# Altium schematic symbol library Freescale_Semiconductor_MCIMX6Q5EYM10ACR.SchLib: 1 symbol
Pins are listed as number, name and electrical type; pins without a type are passive.

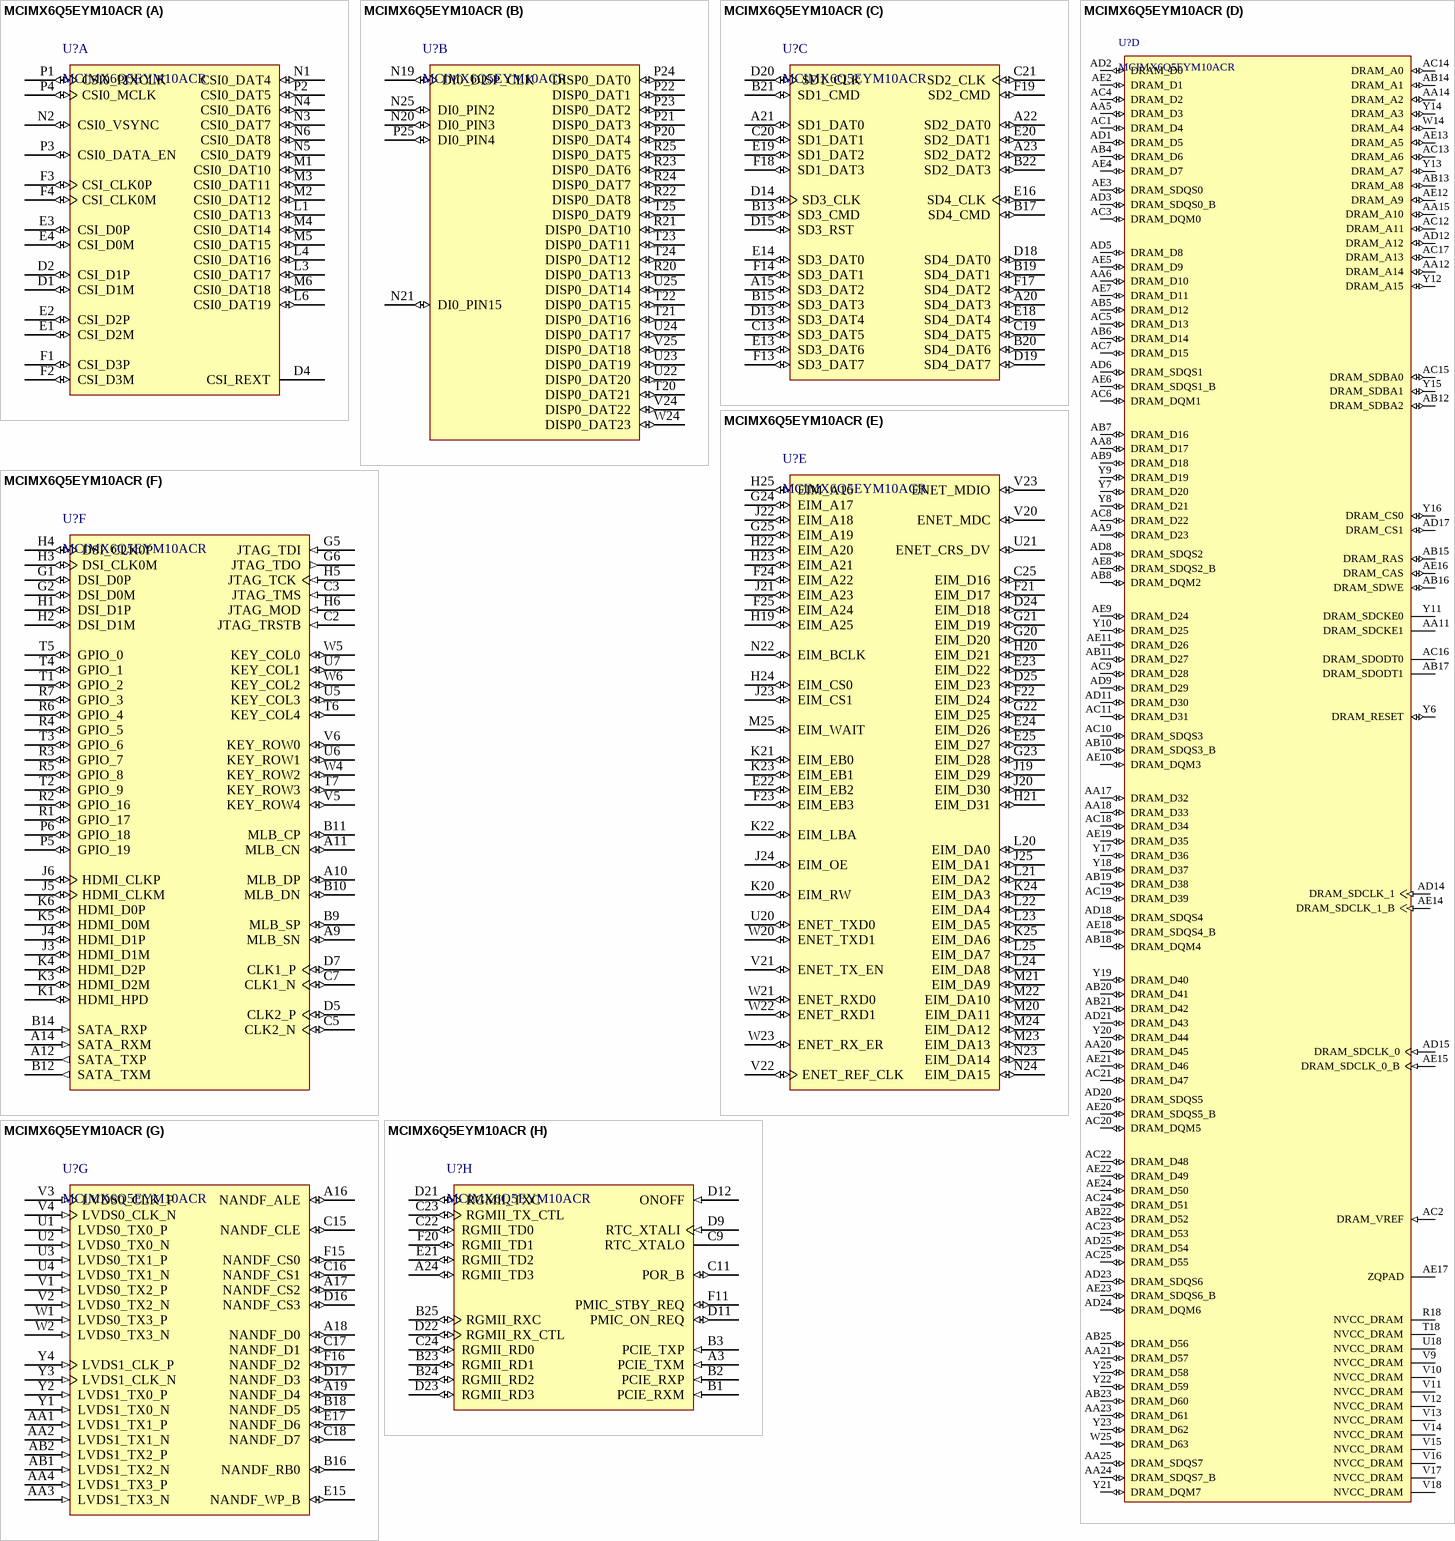
[diagram p0: symbol MCIMX6Q5EYM10ACR]

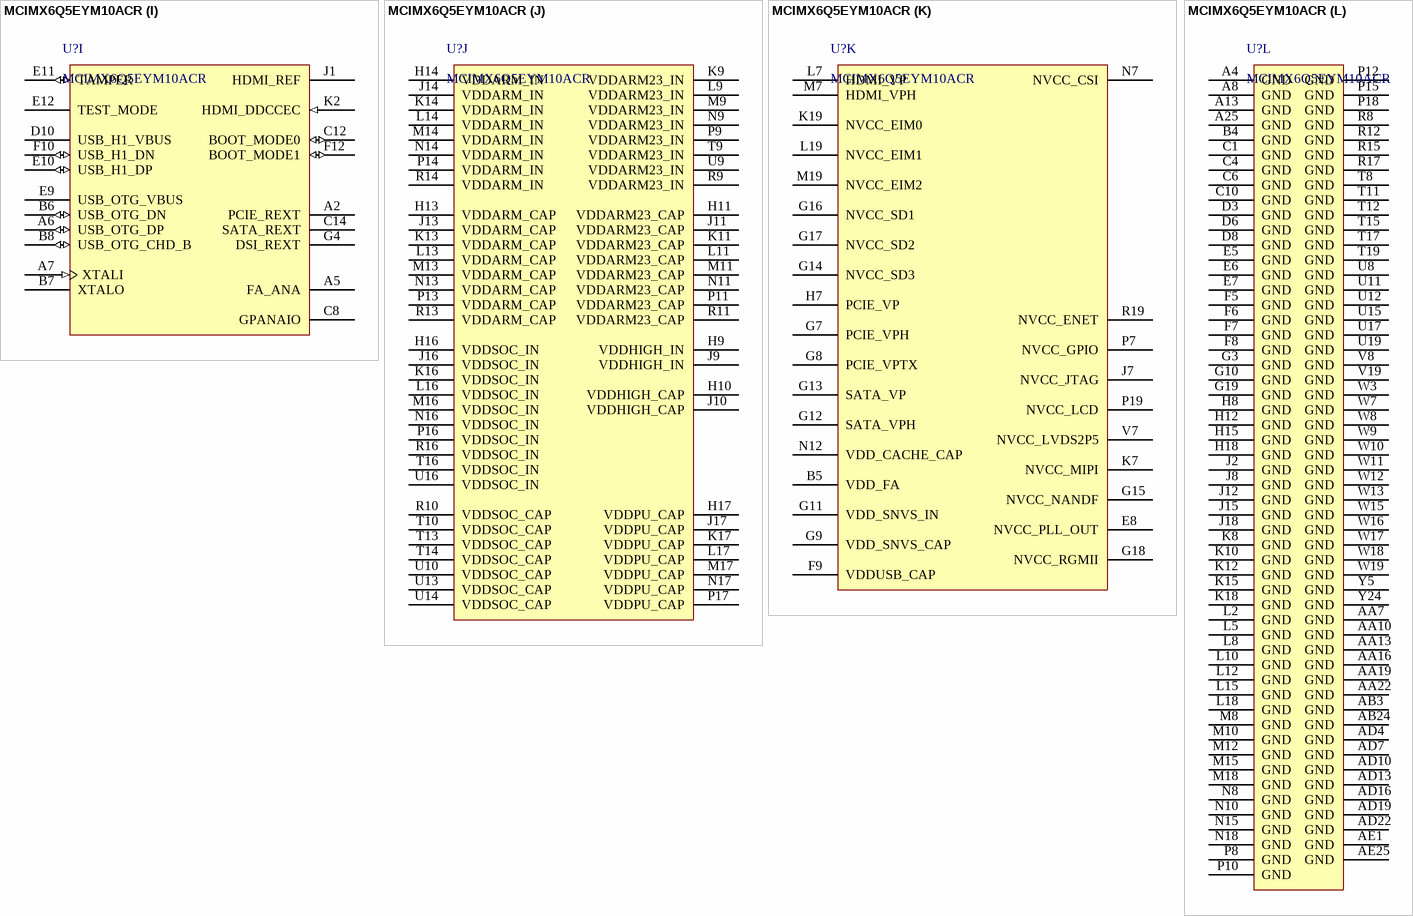
[diagram p1: symbol MCIMX6Q5EYM10ACR]

## MCIMX6Q5EYM10ACR
designator U?
32-Bit i.MX 6 Quad Application Processor, 1 GHz, 256 KB RAM, Extended Consumer Grade, 624-Pin FCPBGA, RoHS, Tape and Reel; Manufacturer: Freescale Semiconductor; CAN: FlexCAN; Number of Cores: 4 Spec; External Memory Supported: DDR3, DDR3L, FLASH, LPDDR2; Speed Grade: 1 GHz; Core Type: ARM Cortex A9; Cache (KB): 32; Ethernet: 1 Gbps + IEEE 1588; Internal RAM (KB): 256; PartNumber: MCIMX6Q5EYM10ACR; ComponentLink1Description: Manufacturer URL; ComponentLink2Description: Datasheet; DatasheetVersion: Rev. 2.3; ComponentLink3URL: http://cache.freescale.com/files/32bit/doc/data_sheet/IMX6DQCEC.pdf?fpsp=1&WT_TYPE=Data%20Sheets&WT_VENDOR=FREESCALE&WT_FILE_FORMAT=pdf&WT_ASSET=Documentation; ComponentLink1URL: http://www.freescale.com/; Packing: Tape and Reel; Temperature Range: -20 to 105 degC; ComponentLink2URL: http://cache.freescale.com/files/32bit/doc/data_sheet/IMX6DQCEC.pdf?fpsp=1&WT_TYPE=Data%20Sheets&WT_VENDOR=FREESCALE&WT_FILE_FORMAT=pdf&WT_ASSET=Documentation; ComponentLink3Description: Package Specification; PackageVersion: Rev. A; RoHS: TRUE; Quad/Dual CPU: i.MX 6Quad; Mounting Technology: Surface Mount; PackageReference: FCPBGA-624; PackageDescription: 624-pin Ball Grid Array Package, Body 21 x 21mm, Pitch 0.8mm
footprint FRES-2197-01
part A pins: D1 CSI_D1M (io), D2 CSI_D1P (io), D4 CSI_REXT, E1 CSI_D2M (io), E2 CSI_D2P (io), E3 CSI_D0P (io), E4 CSI_D0M (io), F1 CSI_D3P (io), F2 CSI_D3M (io), F3 CSI_CLK0P (io), F4 CSI_CLK0M (io), L1 CSI0_DAT13 (io), L3 CSI0_DAT17 (io), L4 CSI0_DAT16 (io), L6 CSI0_DAT19 (io), M1 CSI0_DAT10 (io), M2 CSI0_DAT12 (io), M3 CSI0_DAT11 (io), M4 CSI0_DAT14 (io), M5 CSI0_DAT15 (io), M6 CSI0_DAT18 (io), N1 CSI0_DAT4 (io), N2 CSI0_VSYNC (io), N3 CSI0_DAT7 (io), N4 CSI0_DAT6 (io), N5 CSI0_DAT9 (io), N6 CSI0_DAT8 (io), P1 CSI0_PIXCLK (io), P2 CSI0_DAT5 (io), P3 CSI0_DATA_EN (io), P4 CSI0_MCLK (io)
part B pins: N19 DI0_DISP_CLK (io), N20 DI0_PIN3 (io), N21 DI0_PIN15 (io), N25 DI0_PIN2 (io), P20 DISP0_DAT4 (io), P21 DISP0_DAT3 (io), P22 DISP0_DAT1 (io), P23 DISP0_DAT2 (io), P24 DISP0_DAT0 (io), P25 DI0_PIN4 (io), R20 DISP0_DAT13 (io), R21 DISP0_DAT10 (io), R22 DISP0_DAT8 (io), R23 DISP0_DAT6 (io), R24 DISP0_DAT7 (io), R25 DISP0_DAT5 (io), T20 DISP0_DAT21 (io), T21 DISP0_DAT16 (io), T22 DISP0_DAT15 (io), T23 DISP0_DAT11 (io), T24 DISP0_DAT12 (io), T25 DISP0_DAT9 (io), U22 DISP0_DAT20 (io), U23 DISP0_DAT19 (io), U24 DISP0_DAT17 (io), U25 DISP0_DAT14 (io), V24 DISP0_DAT22 (io), V25 DISP0_DAT18 (io), W24 DISP0_DAT23 (io)
part C pins: A15 SD3_DAT2 (io), A20 SD4_DAT3 (io), A21 SD1_DAT0 (io), A22 SD2_DAT0 (io), A23 SD2_DAT2 (io), B13 SD3_CMD (io), B15 SD3_DAT3 (io), B17 SD4_CMD (io), B19 SD4_DAT1 (io), B20 SD4_DAT6 (io), B21 SD1_CMD (io), B22 SD2_DAT3 (io), C13 SD3_DAT5 (io), C19 SD4_DAT5 (io), C20 SD1_DAT1 (io), C21 SD2_CLK (io), D13 SD3_DAT4 (io), D14 SD3_CLK (io), D15 SD3_RST (io), D18 SD4_DAT0 (io), D19 SD4_DAT7 (io), D20 SD1_CLK (io), E13 SD3_DAT6 (io), E14 SD3_DAT0 (io), E16 SD4_CLK (io), E18 SD4_DAT4 (io), E19 SD1_DAT2 (io), E20 SD2_DAT1 (io), F13 SD3_DAT7 (io), F14 SD3_DAT1 (io), F17 SD4_DAT2 (io), F18 SD1_DAT3 (io), F19 SD2_CMD (io)
part D pins: AA5 DRAM_D3 (io), AA6 DRAM_D10 (io), AA8 DRAM_D17 (io), AA9 DRAM_D23 (io), AA11 DRAM_SDCKE1, AA12 DRAM_A14 (io), AA14 DRAM_A2 (io), AA15 DRAM_A10 (io), AA17 DRAM_D32 (io), AA18 DRAM_D33 (io), AA20 DRAM_D45 (io), AA21 DRAM_D57 (io), AA23 DRAM_D61 (io), AA24 DRAM_SDQS7_B (io), AA25 DRAM_SDQS7 (io), AB4 DRAM_D6 (io), AB5 DRAM_D12 (io), AB6 DRAM_D14 (io), AB7 DRAM_D16 (io), AB8 DRAM_DQM2 (io), AB9 DRAM_D18 (io), AB10 DRAM_SDQS3_B (io), AB11 DRAM_D27 (io), AB12 DRAM_SDBA2 (io), AB13 DRAM_A8 (io), AB14 DRAM_A1 (io), AB15 DRAM_RAS (io), AB16 DRAM_SDWE (io), AB17 DRAM_SDODT1, AB18 DRAM_DQM4 (io), AB19 DRAM_D38 (io), AB20 DRAM_D41 (io), AB21 DRAM_D42 (io), AB22 DRAM_D52 (io), AB23 DRAM_D60 (io), AB25 DRAM_D56 (io), AC1 DRAM_D4 (io), AC2 DRAM_VREF (in), AC3 DRAM_DQM0 (io), AC4 DRAM_D2 (io), AC5 DRAM_D13 (io), AC6 DRAM_DQM1 (io), AC7 DRAM_D15 (io), AC8 DRAM_D22 (io), AC9 DRAM_D28 (io), AC10 DRAM_SDQS3 (io), AC11 DRAM_D31 (io), AC12 DRAM_A11 (io), AC13 DRAM_A6 (io), AC14 DRAM_A0 (io), AC15 DRAM_SDBA0 (io), AC16 DRAM_SDODT0, AC17 DRAM_A13 (io), AC18 DRAM_D34 (io), AC19 DRAM_D39 (io), AC20 DRAM_DQM5 (io), AC21 DRAM_D47 (io), AC22 DRAM_D48 (io), AC23 DRAM_D53 (io), AC24 DRAM_D51 (io), AC25 DRAM_D55 (io), AD1 DRAM_D5 (io), AD2 DRAM_D0 (io), AD3 DRAM_SDQS0_B (io), AD5 DRAM_D8 (io), AD6 DRAM_SDQS1 (io), AD8 DRAM_SDQS2 (io), AD9 DRAM_D29 (io), AD11 DRAM_D30 (io), AD12 DRAM_A12 (io), AD14 DRAM_SDCLK_1 (in), AD15 DRAM_SDCLK_0 (in), AD17 DRAM_CS1 (io), AD18 DRAM_SDQS4 (io), AD20 DRAM_SDQS5 (io), AD21 DRAM_D43 (io), AD23 DRAM_SDQS6 (io), AD24 DRAM_DQM6 (io), AD25 DRAM_D54 (io), AE2 DRAM_D1 (io), AE3 DRAM_SDQS0 (io), AE4 DRAM_D7 (io), AE5 DRAM_D9 (io), AE6 DRAM_SDQS1_B (io), AE7 DRAM_D11 (io), AE8 DRAM_SDQS2_B (io), AE9 DRAM_D24 (io), AE10 DRAM_DQM3 (io), AE11 DRAM_D26 (io), AE12 DRAM_A9 (io), AE13 DRAM_A5 (io), AE14 DRAM_SDCLK_1_B (in), AE15 DRAM_SDCLK_0_B (in), AE16 DRAM_CAS (io), AE17 ZQPAD, AE18 DRAM_SDQS4_B (io), AE19 DRAM_D35 (io), AE20 DRAM_SDQS5_B (io), AE21 DRAM_D46 (io), AE22 DRAM_D49 (io), AE23 DRAM_SDQS6_B (io), AE24 DRAM_D50 (io), R18 NVCC_DRAM (power) "Supply of the DDR interface", T18 NVCC_DRAM (power) "Supply of the DDR interface", U18 NVCC_DRAM (power) "Supply of the DDR interface", V9 NVCC_DRAM (power) "Supply of the DDR interface", V10 NVCC_DRAM (power) "Supply of the DDR interface", V11 NVCC_DRAM (power) "Supply of the DDR interface", V12 NVCC_DRAM (power) "Supply of the DDR interface", V13 NVCC_DRAM (power) "Supply of the DDR interface", V14 NVCC_DRAM (power) "Supply of the DDR interface", V15 NVCC_DRAM (power) "Supply of the DDR interface", V16 NVCC_DRAM (power) "Supply of the DDR interface", V17 NVCC_DRAM (power) "Supply of the DDR interface", V18 NVCC_DRAM (power) "Supply of the DDR interface", W14 DRAM_A4 (io), W25 DRAM_D63 (io), Y6 DRAM_RESET (io), Y7 DRAM_D20 (io), Y8 DRAM_D21 (io), Y9 DRAM_D19 (io), Y10 DRAM_D25 (io), Y11 DRAM_SDCKE0, Y12 DRAM_A15 (io), Y13 DRAM_A7 (io), Y14 DRAM_A3 (io), Y15 DRAM_SDBA1 (io), Y16 DRAM_CS0 (io), Y17 DRAM_D36 (io), Y18 DRAM_D37 (io), Y19 DRAM_D40 (io), Y20 DRAM_D44 (io), Y21 DRAM_DQM7 (io), Y22 DRAM_D59 (io), Y23 DRAM_D62 (io), Y25 DRAM_D58 (io)
part E pins: C25 EIM_D16 (io), D24 EIM_D18 (io), D25 EIM_D23 (io), E22 EIM_EB2 (io), E23 EIM_D22 (io), E24 EIM_D26 (io), E25 EIM_D27 (io), F21 EIM_D17 (io), F22 EIM_D24 (io), F23 EIM_EB3 (io), F24 EIM_A22 (io), F25 EIM_A24 (io), G20 EIM_D20 (io), G21 EIM_D19 (io), G22 EIM_D25 (io), G23 EIM_D28 (io), G24 EIM_A17 (io), G25 EIM_A19 (io), H19 EIM_A25 (io), H20 EIM_D21 (io), H21 EIM_D31 (io), H22 EIM_A20 (io), H23 EIM_A21 (io), H24 EIM_CS0 (io), H25 EIM_A16 (io), J19 EIM_D29 (io), J20 EIM_D30 (io), J21 EIM_A23 (io), J22 EIM_A18 (io), J23 EIM_CS1 (io), J24 EIM_OE (io), J25 EIM_DA1 (io), K20 EIM_RW (io), K21 EIM_EB0 (io), K22 EIM_LBA (io), K23 EIM_EB1 (io), K24 EIM_DA3 (io), K25 EIM_DA6 (io), L20 EIM_DA0 (io), L21 EIM_DA2 (io), L22 EIM_DA4 (io), L23 EIM_DA5 (io), L24 EIM_DA8 (io), L25 EIM_DA7 (io), M20 EIM_DA11 (io), M21 EIM_DA9 (io), M22 EIM_DA10 (io), M23 EIM_DA13 (io), M24 EIM_DA12 (io), M25 EIM_WAIT (io), N22 EIM_BCLK (io), N23 EIM_DA14 (io), N24 EIM_DA15 (io), U20 ENET_TXD0 (io), U21 ENET_CRS_DV (io), V20 ENET_MDC (io), V21 ENET_TX_EN (io), V22 ENET_REF_CLK (io), V23 ENET_MDIO (io), W20 ENET_TXD1 (io), W21 ENET_RXD0 (io), W22 ENET_RXD1 (io), W23 ENET_RX_ER (io)
part F pins: A9 MLB_SN (io), A10 MLB_DP (io), A11 MLB_CN (io), A12 SATA_TXP (out), A14 SATA_RXM (in), B9 MLB_SP (io), B10 MLB_DN (io), B11 MLB_CP (io), B12 SATA_TXM (out), B14 SATA_RXP (in), C2 JTAG_TRSTB (in), C3 JTAG_TMS (in), C5 CLK2_N (io), C7 CLK1_N (io), D5 CLK2_P (io), D7 CLK1_P (io), G1 DSI_D0P (io), G2 DSI_D0M (io), G5 JTAG_TDI (in), G6 JTAG_TDO (out), H1 DSI_D1P (io), H2 DSI_D1M (io), H3 DSI_CLK0M (io), H4 DSI_CLK0P (io), H5 JTAG_TCK (in), H6 JTAG_MOD (in), J3 HDMI_D1M (io), J4 HDMI_D1P (io), J5 HDMI_CLKM (io), J6 HDMI_CLKP (io), K1 HDMI_HPD (io), K3 HDMI_D2M (io), K4 HDMI_D2P (io), K5 HDMI_D0M (io), K6 HDMI_D0P (io), P5 GPIO_19 (io), P6 GPIO_18 (io), R1 GPIO_17 (io), R2 GPIO_16 (io), R3 GPIO_7 (io), R4 GPIO_5 (io), R5 GPIO_8 (io), R6 GPIO_4 (io), R7 GPIO_3 (io), T1 GPIO_2 (io), T2 GPIO_9 (io), T3 GPIO_6 (io), T4 GPIO_1 (io), T5 GPIO_0 (io), T6 KEY_COL4 (io), T7 KEY_ROW3 (io), U5 KEY_COL3 (io), U6 KEY_ROW1 (io), U7 KEY_COL1 (io), V5 KEY_ROW4 (io), V6 KEY_ROW0 (io), W4 KEY_ROW2 (io), W5 KEY_COL0 (io), W6 KEY_COL2 (io)
part G pins: A16 NANDF_ALE (io), A17 NANDF_CS2 (io), A18 NANDF_D0 (io), A19 NANDF_D4 (io), AA1 LVDS1_TX1_P (in), AA2 LVDS1_TX1_N (in), AA3 LVDS1_TX3_N (in), AA4 LVDS1_TX3_P (in), AB1 LVDS1_TX2_N (in), AB2 LVDS1_TX2_P (in), B16 NANDF_RB0 (io), B18 NANDF_D5 (io), C15 NANDF_CLE (io), C16 NANDF_CS1 (io), C17 NANDF_D1 (io), C18 NANDF_D7 (io), D16 NANDF_CS3 (io), D17 NANDF_D3 (io), E15 NANDF_WP_B (io), E17 NANDF_D6 (io), F15 NANDF_CS0 (io), F16 NANDF_D2 (io), U1 LVDS0_TX0_P (in), U2 LVDS0_TX0_N (in), U3 LVDS0_TX1_P (in), U4 LVDS0_TX1_N (in), V1 LVDS0_TX2_P (in), V2 LVDS0_TX2_N (in), V3 LVDS0_CLK_P (in), V4 LVDS0_CLK_N (in), W1 LVDS0_TX3_P (in), W2 LVDS0_TX3_N (in), Y1 LVDS1_TX0_N (in), Y2 LVDS1_TX0_P (in), Y3 LVDS1_CLK_N (in), Y4 LVDS1_CLK_P (in)
part H pins: A3 PCIE_TXM (in), A24 RGMII_TD3 (io), B1 PCIE_RXM (in), B2 PCIE_RXP (in), B3 PCIE_TXP (in), B23 RGMII_RD1 (io), B24 RGMII_RD2 (io), B25 RGMII_RXC (io), C9 RTC_XTALO, C11 POR_B (io), C22 RGMII_TD0 (io), C23 RGMII_TX_CTL (io), C24 RGMII_RD0 (io), D9 RTC_XTALI (in), D11 PMIC_ON_REQ (io), D12 ONOFF (in), D21 RGMII_TXC (io), D22 RGMII_RX_CTL (io), D23 RGMII_RD3 (io), E21 RGMII_TD2 (io), F11 PMIC_STBY_REQ (io), F20 RGMII_TD1 (io)
part I pins: A2 PCIE_REXT, A5 FA_ANA, A6 USB_OTG_DP (io), A7 XTALI (in), B6 USB_OTG_DN (io), B7 XTALO, B8 USB_OTG_CHD_B (io), C8 GPANAIO, C12 BOOT_MODE0 (io), C14 SATA_REXT, D10 USB_H1_VBUS (power), E9 USB_OTG_VBUS (power), E10 USB_H1_DP (io), E11 TAMPER (io), E12 TEST_MODE, F10 USB_H1_DN (io), F12 BOOT_MODE1 (io), G4 DSI_REXT, J1 HDMI_REF, K2 HDMI_DDCCEC (in) "Analog ground reference for the Hot Plug detect signal"
part J pins: H9 VDDHIGH_IN (power) "Primary supply for the 2.5 V regulator", H10 VDDHIGH_CAP (power) "Secondary supply for the 2.5 V domain (internal regulator output-requires capacitor if internal regulator is used)", H11 VDDARM23_CAP (power) "Secondary supply for the ARM2 and ARM3 cores (internal regulator output-requires capacitor if internal regulator is used)", H13 VDDARM_CAP (power) "Secondary supply for the ARM0 and ARM1 cores (internal regulator output-requires capacitor if internal regulator is used)", H14 VDDARM_IN (power) "Primary supply for the ARM0 and ARM1 core regulator", H16 VDDSOC_IN (power) "Primary supply for the SoC and PU regulators", H17 VDDPU_CAP (power) "Secondary supply for the VPU and GPU (internal regulator output- requires capacitor if internal regulator is used)", J9 VDDHIGH_IN (power) "Primary supply for the 2.5 V regulator", J10 VDDHIGH_CAP (power) "Secondary supply for the 2.5 V domain (internal regulator output-requires capacitor if internal regulator is used)", J11 VDDARM23_CAP (power) "Secondary supply for the ARM2 and ARM3 cores (internal regulator output-requires capacitor if internal regulator is used)", J13 VDDARM_CAP (power) "Secondary supply for the ARM0 and ARM1 cores (internal regulator output-requires capacitor if internal regulator is used)", J14 VDDARM_IN (power) "Primary supply for the ARM0 and ARM1 core regulator", J16 VDDSOC_IN (power) "Primary supply for the SoC and PU regulators", J17 VDDPU_CAP (power) "Secondary supply for the VPU and GPU (internal regulator output- requires capacitor if internal regulator is used)", K9 VDDARM23_IN (power) "Primary supply for the ARM2 and ARM3 core regulator", K11 VDDARM23_CAP (power) "Secondary supply for the ARM2 and ARM3 cores (internal regulator output-requires capacitor if internal regulator is used)", K13 VDDARM_CAP (power) "Secondary supply for the ARM0 and ARM1 cores (internal regulator output-requires capacitor if internal regulator is used)", K14 VDDARM_IN (power) "Primary supply for the ARM0 and ARM1 core regulator", K16 VDDSOC_IN (power) "Primary supply for the SoC and PU regulators", K17 VDDPU_CAP (power) "Secondary supply for the VPU and GPU (internal regulator output- requires capacitor if internal regulator is used)", L9 VDDARM23_IN (power) "Primary supply for the ARM2 and ARM3 core regulator", L11 VDDARM23_CAP (power) "Secondary supply for the ARM2 and ARM3 cores (internal regulator output-requires capacitor if internal regulator is used)", L13 VDDARM_CAP (power) "Secondary supply for the ARM0 and ARM1 cores (internal regulator output-requires capacitor if internal regulator is used)", L14 VDDARM_IN (power) "Primary supply for the ARM0 and ARM1 core regulator", L16 VDDSOC_IN (power) "Primary supply for the SoC and PU regulators", L17 VDDPU_CAP (power) "Secondary supply for the VPU and GPU (internal regulator output- requires capacitor if internal regulator is used)", M9 VDDARM23_IN (power) "Primary supply for the ARM2 and ARM3 core regulator", M11 VDDARM23_CAP (power) "Secondary supply for the ARM2 and ARM3 cores (internal regulator output-requires capacitor if internal regulator is used)", M13 VDDARM_CAP (power) "Secondary supply for the ARM0 and ARM1 cores (internal regulator output-requires capacitor if internal regulator is used)", M14 VDDARM_IN (power) "Primary supply for the ARM0 and ARM1 core regulator", M16 VDDSOC_IN (power) "Primary supply for the SoC and PU regulators", M17 VDDPU_CAP (power) "Secondary supply for the VPU and GPU (internal regulator output- requires capacitor if internal regulator is used)", N9 VDDARM23_IN (power) "Primary supply for the ARM2 and ARM3 core regulator", N11 VDDARM23_CAP (power) "Secondary supply for the ARM2 and ARM3 cores (internal regulator output-requires capacitor if internal regulator is used)", N13 VDDARM_CAP (power) "Secondary supply for the ARM0 and ARM1 cores (internal regulator output-requires capacitor if internal regulator is used)", N14 VDDARM_IN (power) "Primary supply for the ARM0 and ARM1 core regulator", N16 VDDSOC_IN (power) "Primary supply for the SoC and PU regulators", N17 VDDPU_CAP (power) "Secondary supply for the VPU and GPU (internal regulator output- requires capacitor if internal regulator is used)", P9 VDDARM23_IN (power) "Primary supply for the ARM2 and ARM3 core regulator", P11 VDDARM23_CAP (power) "Secondary supply for the ARM2 and ARM3 cores (internal regulator output-requires capacitor if internal regulator is used)", P13 VDDARM_CAP (power) "Secondary supply for the ARM0 and ARM1 cores (internal regulator output-requires capacitor if internal regulator is used)", P14 VDDARM_IN (power) "Primary supply for the ARM0 and ARM1 core regulator", P16 VDDSOC_IN (power) "Primary supply for the SoC and PU regulators", P17 VDDPU_CAP (power) "Secondary supply for the VPU and GPU (internal regulator output- requires capacitor if internal regulator is used)", R9 VDDARM23_IN (power) "Primary supply for the ARM2 and ARM3 core regulator", R10 VDDSOC_CAP (power) "Secondary supply for the SoC and PU (internal regulator output—requires capacitor if internal regulator is used)", R11 VDDARM23_CAP (power) "Secondary supply for the ARM2 and ARM3 cores (internal regulator output-requires capacitor if internal regulator is used)", R13 VDDARM_CAP (power) "Secondary supply for the ARM0 and ARM1 cores (internal regulator output-requires capacitor if internal regulator is used)", R14 VDDARM_IN (power) "Primary supply for the ARM0 and ARM1 core regulator", R16 VDDSOC_IN (power) "Primary supply for the SoC and PU regulators", T9 VDDARM23_IN (power) "Primary supply for the ARM2 and ARM3 core regulator", T10 VDDSOC_CAP (power) "Secondary supply for the SoC and PU (internal regulator output—requires capacitor if internal regulator is used)", T13 VDDSOC_CAP (power) "Secondary supply for the SoC and PU (internal regulator output—requires capacitor if internal regulator is used)", T14 VDDSOC_CAP (power) "Secondary supply for the SoC and PU (internal regulator output—requires capacitor if internal regulator is used)", T16 VDDSOC_IN (power) "Primary supply for the SoC and PU regulators", U9 VDDARM23_IN (power) "Primary supply for the ARM2 and ARM3 core regulator", U10 VDDSOC_CAP (power) "Secondary supply for the SoC and PU (internal regulator output—requires capacitor if internal regulator is used)", U13 VDDSOC_CAP (power) "Secondary supply for the SoC and PU (internal regulator output—requires capacitor if internal regulator is used)", U14 VDDSOC_CAP (power) "Secondary supply for the SoC and PU (internal regulator output—requires capacitor if internal regulator is used)", U16 VDDSOC_IN (power) "Primary supply for the SoC and PU regulators"
part K pins: B5 VDD_FA (power), E8 NVCC_PLL_OUT (power), F9 VDDUSB_CAP (power) "Secondary supply for the 3 V domain (internal regulator output—requires capacitor if internal regulator is used)", G7 PCIE_VPH (power) "PCI PHY supply", G8 PCIE_VPTX (power) "PCI PHY supply", G9 VDD_SNVS_CAP (power) "Secondary supply for the SNVS (internal regulator output-requires capacitor if internal regulator is used)", G11 VDD_SNVS_IN (power) "Primary supply for the SNVS regulator", G12 SATA_VPH (power), G13 SATA_VP (power), G14 NVCC_SD3 (power) "Supply of the SD card interface", G15 NVCC_NANDF (power) "Supply of the RAW NAND Flash Memories interface", G16 NVCC_SD1 (power) "Supply of the SD card interface", G17 NVCC_SD2 (power) "Supply of the SD card interface", G18 NVCC_RGMII (power) "Supply of the ENET interface", H7 PCIE_VP (power), J7 NVCC_JTAG (power) "Supply of the JTAG tap controller interface", K7 NVCC_MIPI (power) "Supply of the MIPI interface", K19 NVCC_EIM0 (power) "Supply of the EIM interface", L7 HDMI_VP (power), L19 NVCC_EIM1 (power) "Supply of the EIM interface", M7 HDMI_VPH (power), M19 NVCC_EIM2 (power) "Supply of the EIM interface", N7 NVCC_CSI (power) "Supply of the camera sensor interface", N12 VDD_CACHE_CAP (power) "Cache supply input. This input should be connected to (driven by) VDD_SOC_CAP. The external capacitor used for VDD_SOC_CAP is sufficient for this supply.", P7 NVCC_GPIO (power) "Supply of the GPIO interface", P19 NVCC_LCD (power) "Supply of the LCD interface", R19 NVCC_ENET (power) "Supply of the ENET interface", V7 NVCC_LVDS2P5 (power) "Supply of the LVDS display interface and DDR pre-drivers. Even if the LVDS interface is not used, this supply must remain powered."
part L pins: A4 GND (power), A8 GND (power), A13 GND (power), A25 GND (power), AA7 GND (power), AA10 GND (power), AA13 GND (power), AA16 GND (power), AA19 GND (power), AA22 GND (power), AB3 GND (power), AB24 GND (power), AD4 GND (power), AD7 GND (power), AD10 GND (power), AD13 GND (power), AD16 GND (power), AD19 GND (power), AD22 GND (power), AE1 GND (power), AE25 GND (power), B4 GND (power), C1 GND (power), C4 GND (power), C6 GND (power), C10 GND (power), D3 GND (power), D6 GND (power), D8 GND (power), E5 GND (power), E6 GND (power), E7 GND (power), F5 GND (power), F6 GND (power), F7 GND (power), F8 GND (power), G3 GND (power), G10 GND (power), G19 GND (power), H8 GND (power), H12 GND (power), H15 GND (power), H18 GND (power), J2 GND (power), J8 GND (power), J12 GND (power), J15 GND (power), J18 GND (power), K8 GND (power), K10 GND (power), K12 GND (power), K15 GND (power), K18 GND (power), L2 GND (power), L5 GND (power), L8 GND (power), L10 GND (power), L12 GND (power), L15 GND (power), L18 GND (power), M8 GND (power), M10 GND (power), M12 GND (power), M15 GND (power), M18 GND (power), N8 GND (power), N10 GND (power), N15 GND (power), N18 GND (power), P8 GND (power), P10 GND (power), P12 GND (power), P15 GND (power), P18 GND (power), R8 GND (power), R12 GND (power), R15 GND (power), R17 GND (power), T8 GND (power), T11 GND (power), T12 GND (power), T15 GND (power), T17 GND (power), T19 GND (power), U8 GND (power), U11 GND (power), U12 GND (power), U15 GND (power), U17 GND (power), U19 GND (power), V8 GND (power), V19 GND (power), W3 GND (power), W7 GND (power), W8 GND (power), W9 GND (power), W10 GND (power), W11 GND (power), W12 GND (power), W13 GND (power), W15 GND (power), W16 GND (power), W17 GND (power), W18 GND (power), W19 GND (power), Y5 GND (power), Y24 GND (power)